# Altium integrated library BAT54.IntLib: 4 symbols
Pins are listed as number, name and electrical type; pins without a type are passive.

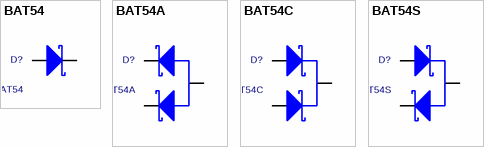
[diagram p0: symbols BAT54 to BAT54S]

## BAT54
designator D?
BUY_LINK: http://www.digikey.com/product-detail/en/BAT54/BAT54FSCT-ND/458928; PDF: http://www.fairchildsemi.com/ds/BA/BAT54.pdf; PRICE: 0.15000; ID: BAT54
footprint SOT23
pins: 1 A1, 3 AK

## BAT54A
designator D?
BUY_LINK: http://www.digikey.com/product-detail/en/BAT54A/BAT54AFSCT-ND/1626174; PDF: http://www.fairchildsemi.com/ds/BA/BAT54.pdf; PRICE: 0.20000; ID: BAT54A
footprint SOT23
pins: 1 K1, 2 K2, 3 A

## BAT54C
designator D?
BUY_LINK: http://www.digikey.com/product-detail/en/BAT54C/BAT54CFSCT-ND/458929; PDF: http://www.fairchildsemi.com/ds/BA/BAT54.pdf; PRICE: 0.20000; ID: BAT54C
footprint SOT23
pins: 1 A1, 2 A2, 3 K

## BAT54S
designator D?
BUY_LINK: http://www.digikey.com/product-detail/en/BAT54S/BAT54SFSCT-ND/458930; PDF: http://www.fairchildsemi.com/ds/BA/BAT54.pdf; PRICE: 0.21000; ID: BAT54S
footprint SOT23
pins: 1 A1, 2 K2, 3 AK